# Altium schematic symbol library TJA1051T_3_CM_118.SchLib: 1 symbol
Pins are listed as number, name and electrical type; pins without a type are passive.

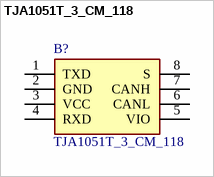
[diagram p0: symbol TJA1051T_3_CM_118]

## TJA1051T_3_CM_118
designator B?
CAN Interface IC BL Advanced Automotive Analog; Manufacturer_Name: NXP; Manufacturer_Part_Number: TJA1051T/3/CM,118; Geometry.Height: 1.75mm; Mouser Part Number: 771-TJA1051T/3CM118; Mouser Price/Stock: https://www.mouser.co.uk/ProductDetail/NXP-Semiconductors/TJA1051T-3-CM118?qs=5XOdhvmYM0NUkmo%252BpXvJfw%3D%3D; Datasheet Link: http://www.nxp.com/docs/en/data-sheet/TJA1051.pdf
footprint SOIC127P600X175-8N
pins: 1 TXD, 2 GND, 3 VCC (power), 4 RXD, 5 VIO, 6 CANL, 7 CANH, 8 S